# Altium schematic symbol library Interface converter.SchLib: 2 symbols
Pins are listed as number, name and electrical type; pins without a type are passive.

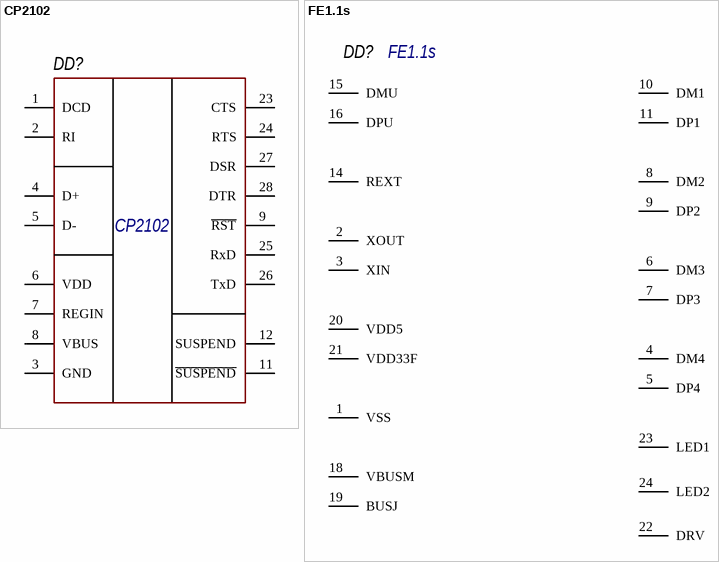
[diagram p0: symbols CP2102 to FE1.1s]

## CP2102
designator DD?  (value not drawn)
Model: *; Manufcacture: *; HelpURL: *; Case: *; Value: *
footprint CP2102
pins: 1 DCD, 2 RI, 3 GND, 4 D+, 5 D-, 6 VDD, 7 REGIN, 8 VBUS, 9 ~{RST}, 11 ~{SUSPEND}, 12 SUSPEND, 23 CTS, 24 RTS, 25 RxD, 26 TxD, 27 DSR, 28 DTR

## FE1.1s
designator DD?
pins: 1 VSS, 2 XOUT, 3 XIN, 4 DM4, 5 DP4, 6 DM3, 7 DP3, 8 DM2, 9 DP2, 10 DM1, 11 DP1, 12 NS hidden, 13 NS hidden, 14 REXT, 15 DMU, 16 DPU, 17 XSRTJ hidden, 18 VBUSM, 19 BUSJ, 20 VDD5, 21 VDD33F, 22 DRV, 23 LED1, 24 LED2, 25 PWRJ hidden, 26 OVCJ hidden, 27 TESTJ hidden, 28 NC hidden